# Altium footprint library L_10uH_4A.PcbLib: 1 footprints
Each footprint in its own frame and in the unit in brackets; x right, y up, seen from the top. Pads: shape width x height; smd on the part's side, far side on the other; paste and mask are expansions set on the pad; w line width, h text height; cw(c..) or ccw(c..) is an arc to the next point about the centre after c.
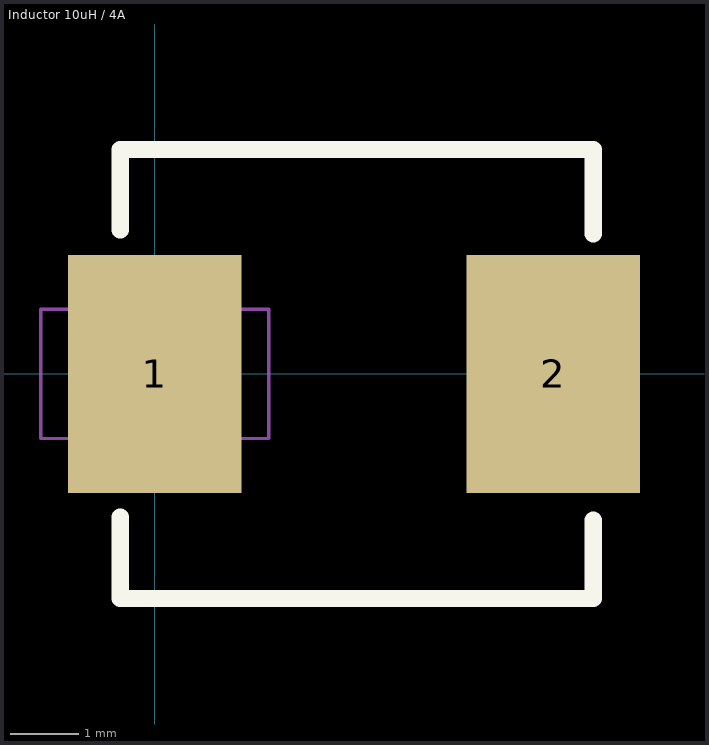
[diagram p0: the footprint, top view; thin cyan lines are the x and y axes]

## Inductor 10uH / 4A [mm]
pads (2):
  rect 2.55x3.5 smd: 1(0,0) 2(5.85,0)
Top Overlay:
  lines w0.254: -0.508,-2.104 -0.508,-3.302 6.442,-3.302 6.442,-2.15 ; -0.508,2.115 -0.508,3.298 6.442,3.298 6.442,2.194 6.442,2.059
Mechanical 20:
  lines w0.05: -1.675,-0.95 -1.675,0.95 1.675,0.95 1.675,-0.95 -1.675,-0.95
3D body: height 2.8, standoff 0, extent -0.562,-3.302 6.477,3.337